# Altium schematic symbol library SLA-12VDC-SL-C.SchLib: 1 symbol
Pins are listed as number, name and electrical type; pins without a type are passive.

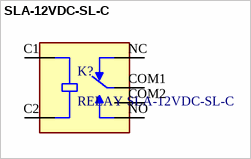
[diagram p0: symbol SLA-12VDC-SL-C]

## SLA-12VDC-SL-C
designator K?, comment RELAY SLA-12VDC-SL-C
SLA-12VDC-SL-C Ningbo Songle Relay-250V@AC 12V 30A 1 Form C: 1C (SPDT-CO) Plugin,27.6x32mm Power Relays ROHS; SnapEDA_Link: https://www.snapeda.com/parts/SLA-12VDC-SL-C/Songle+Relay/view-part/?ref=snap; Package: None; Value: *; MF: Songle Relay; MP: SLA-12VDC-SL-C; Check_prices: https://www.snapeda.com/parts/SLA-12VDC-SL-C/Songle+Relay/view-part/?ref=eda
footprint RELAY SLA-12VDC-SL-C
pins: C1 COIL1, C2 COIL2, COM1 COM, COM2 COM, NC, NO